# Altium integrated library sd_card_shield_500901_0801.IntLib: 1 symbol
Pins are listed as number, name and electrical type; pins without a type are passive.

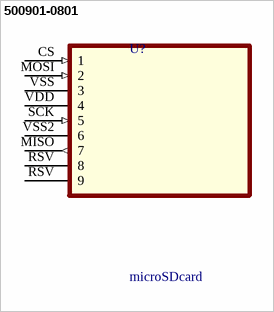
[diagram p0: symbol 500901-0801]

## 500901-0801
designator U?, comment microSDcard
Conn.; IC Socket; Memory Card; 1.10mm Pitch; TransFlash; Hinge Type; Round Corner Top; MF: Molex; MP: 500901-0801; Availability: Unavailable; Package: None; Price: None; SnapEDA_Link: https://www.snapeda.com/parts/500901-0801/Molex/view-part/?ref=snap; Value: *; Buying URL:: https://uk.farnell.com/molex/500901-0801/connector-micro-sd-8pos/dp/1344008?st=500901-0801
footprint MOLEX_500901-0801
pins: CS 1 (in) "Chip select(active low)", MISO 7 (out), MOSI 2 (in), RSV 8 (oe), RSV 9 (oe), SCK 5 (in), VDD 4 (power), VSS 3 (power), VSS2 6 (power)